# EAGLE library part ARDUINO_MINI_PRO (library clock)
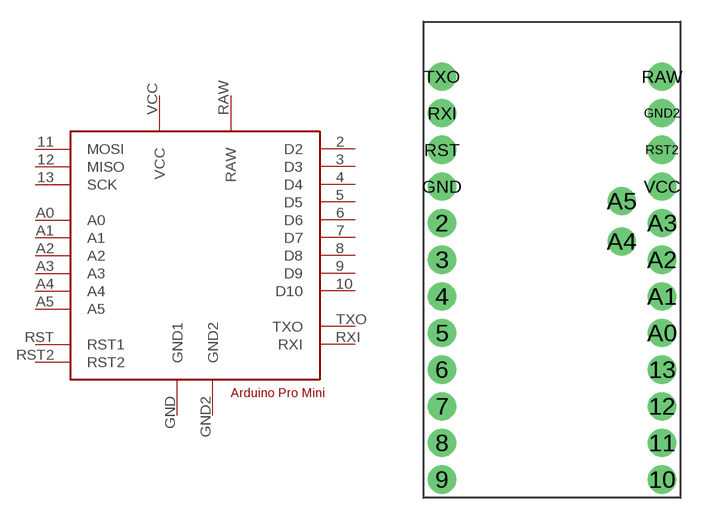
[diagram p2: symbol with the pads of ARD_MINI_PRO; footprint ARD_MINI_PRO]

Designator prefix -

## ARDUINO_MINI_PRO  [ARD_MINI_PRO]
2  D2
3  D3
4  D4
5  D5
6  D6
7  D7
8  D8
9  D9
10  D10
11  MOSI
12  MISO
13  SCK
A0  A0
A1  A1
A2  A2
A3  A3
A4  A4
A5  A5
GND  GND1
GND2  GND2
RAW  RAW
RST  RST1
RST2  RST2
RXI  RXI
TXO  TXO
VCC  VCC

## Footprint ARD_MINI_PRO (pad centres in mm)
drill 1.3 round: 2 -7.62,1.27; 3 -7.62,-1.27; 4 -7.62,-3.81; 5 -7.62,-6.35; 6 -7.62,-8.89; 7 -7.62,-11.43; 8 -7.62,-13.97; 9 -7.62,-16.51; 10 7.62,-16.51; 11 7.62,-13.97; 12 7.62,-11.43; 13 7.62,-8.89; A0 7.62,-6.35; A1 7.62,-3.81; A2 7.62,-1.27; A3 7.62,1.27; A4 4.826,0; A5 4.826,2.794; GND -7.62,3.81; GND2 7.62,8.89; RAW 7.62,11.43; RST -7.62,6.35; RST2 7.62,6.35; RXI -7.62,8.89; TXO -7.62,11.43; VCC 7.62,3.81